# EAGLE library part LMC555 (library myparts)
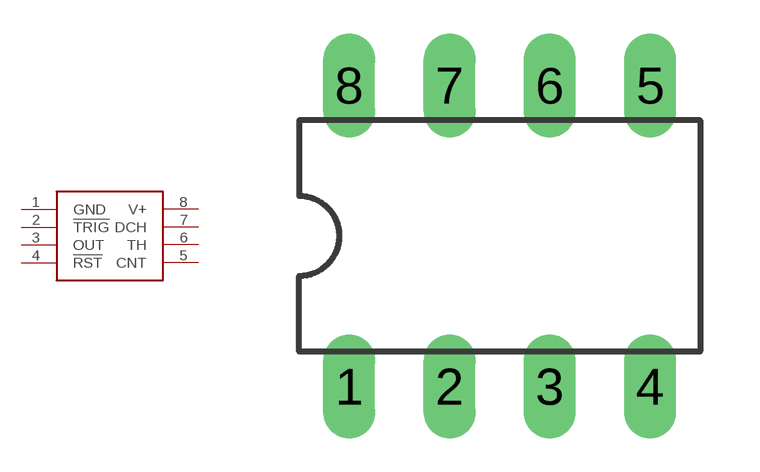
[diagram p24: symbol with the pads of DIL08; footprint DIL08]

Designator prefix -

## LMC555  [DIL08]
1  GND
2  !TRIG
3  OUT
4  !RST
5  CNT
6  TH
7  DCH
8  V+

## Footprint DIL08 (pad centres in mm)
Dual In Line Package
drill 0.813 long: 1 -3.81,-3.81; 2 -1.27,-3.81; 3 1.27,-3.81; 4 3.81,-3.81; 5 3.81,3.81; 6 1.27,3.81; 7 -1.27,3.81; 8 -3.81,3.81